# EAGLE library part TINYCIRCUITS_DRV8837 (library Eency_v01)
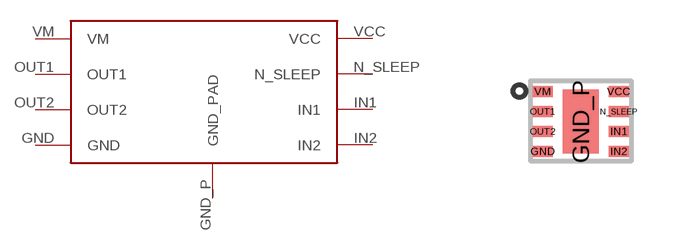
[diagram p1: symbol with the pads of TINYCIRCUITS_WSON-8; footprint TINYCIRCUITS_WSON-8]

Designator prefix -

## TINYCIRCUITS_DRV8837  [TINYCIRCUITS_WSON-8]
GND  GND
GND_P  GND_PAD
IN1  IN1
IN2  IN2
N_SLEEP  N_SLEEP
OUT1  OUT1
OUT2  OUT2
VCC  VCC
VM  VM

## Footprint TINYCIRCUITS_WSON-8 (pad centres in mm)
smd 0.5 x 0.28: GND 0.32,-2.02; IN1 2.22,-1.52; IN2 2.22,-2.02; N_SLEEP 2.22,-1.02; OUT1 0.32,-1.02; OUT2 0.32,-1.52; VCC 2.22,-0.52; VM 0.32,-0.52
smd 0.9 x 1.6: GND_P 1.27,-1.27